# Altium schematic symbol library SI702x.SCHLIB: 5 symbols
Pins are listed as number, name and electrical type; pins without a type are passive.

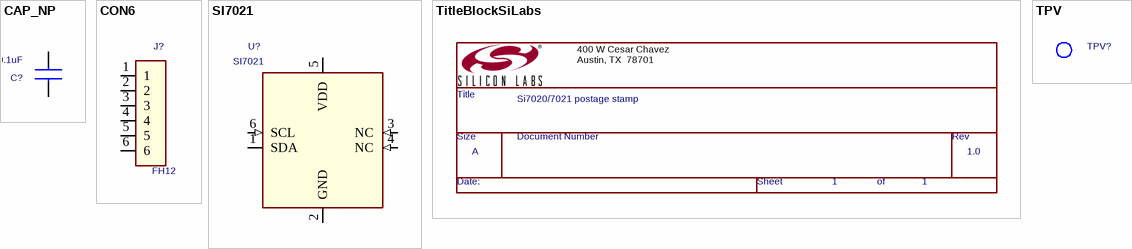
[diagram p0: symbols CAP_NP to TPV]

## CAP_NP
designator C?, comment 0.1uF
CAP, 0.1uF, 10V, ?0%, X7R, 0402; Part_Type: CAP/NP; Manufacturer: Venkel; SiLabsPN: C0402X7R100-104K; Type: X7R; ManufacturerPN: C0402X7R100-104K; Tolerance: ?0%; Voltage: 10V; DataSheet: PID_C.pdf
footprint C0402
pins: 1, 2

## CON6
designator J?, comment FH12
CONN, 6-PIN , FPC/FFC, BOTTOM CONTACT, 0.5MM PITCH, SMD; Manufacturer: HIROSE; ManufacturerPN: FH12-6S-0.5SH(55); Part_Type: CON/MODULAR; DataSheet: e58605370.pdf; Type: FH12; SiLabsPN: FH12-6S-0.5SH(55)
footprint CONN6N-FPC/FFC-P0.5
pins: 1, 2, 3, 4, 5, 6

## SI7021
designator U?
IC, Digital I2C Humidity and Temperature Sensor, ?% RH, ?.4癈, DFN6; Manufacturer: SiLabs; SiLabsPN: Si7021-A-YM1; Type: Humidity and Temperature; ManufacturerPN: Si7021-A-YM1; DataSheet: Si7021Rev0 1.pdf
footprint QFN24
footprint DFN6M3X3P1.0E
pins: 1 SDA (io), 2 GND, 3 NC (in), 4 NC (in), 5 VDD, 6 SCL (in)

## TitleBlockSiLabs
designator *?  RevCode: 1.0  Title: Si7020/7021 postage stamp  Page Size: A  Page Number: 1  (hidden comment: TitleBlockSiLabs)  (graphical)
Page Create Date: March  8, 1995; Page Count: 1
text: 400 W Cesar Chavez / Austin, TX  78701; Title; Size; Document Number; Rev; Date:; Sheet; of

## TPV
designator TPV?  (value not drawn)
TESTPOINT Via; Manufacturer: N/A; ManufacturerPN: N/A; Type: PCB Feature; SiLabsPN: TPV
footprint VIA-TP
pins: 1 Point